# EAGLE library part ATWINC1500_MR210PA (library CardReader)
ATWINC1500_MR210PA wifi module
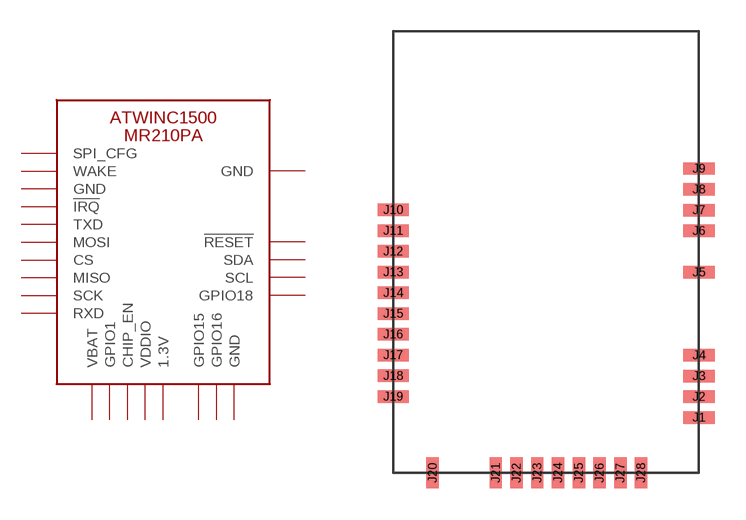
[diagram p4: symbol with the pads of ATWINC1500_MR210PA; footprint ATWINC1500_MR210PA]

Designator prefix X

## ATWINC1500_MR210PA  [ATWINC1500_MR210PA]
J1  GPIO18
J2  SCL
J3  SDA
J4  !RESET  in
J9  GND
J10  SPI_CFG
J11  WAKE
J12  GND
J13  !IRQ
J14  TXD
J15  MOSI  in
J16  CS  in
J17  MISO
J18  SCK  in
J19  RXD  in
J20  VBAT
J21  GPIO1
J22  CHIP_EN
J23  VDDIO
J24  1.3V
J26  GPIO15
J27  GPIO16
J28  GND

## Footprint ATWINC1500_MR210PA (pad centres in mm)
smd 1.5 x 0.6: J1 7.11,-4.95; J2 7.11,-3.95; J3 7.11,-2.95; J4 7.11,-1.95; J5 7.11,2.05; J6 7.11,4.05; J7 7.11,5.05; J8 7.11,6.05; J9 7.11,7.05; J10 -7.62,5.06; J11 -7.62,4.06; J12 -7.62,3.06; J13 -7.62,2.06; J14 -7.62,1.06; J15 -7.62,0.06; J16 -7.62,-0.94; J17 -7.62,-1.94; J18 -7.62,-2.94; J19 -7.62,-3.94
smd 0.6 x 1.5: J20 -5.72,-7.62; J21 -2.68,-7.62; J22 -1.68,-7.62; J23 -0.68,-7.62; J24 0.32,-7.62; J25 1.32,-7.62; J26 2.32,-7.62; J27 3.32,-7.62; J28 4.32,-7.62